# EAGLE library part USB-A1VSB6 (library USB-A1VSB6)
USB - A Receptacle Connector 4 Position Through Hole Source: Datasheet <http://www.on-shore.com/wp-content/uploads/USB-A1VSXX.pdf>
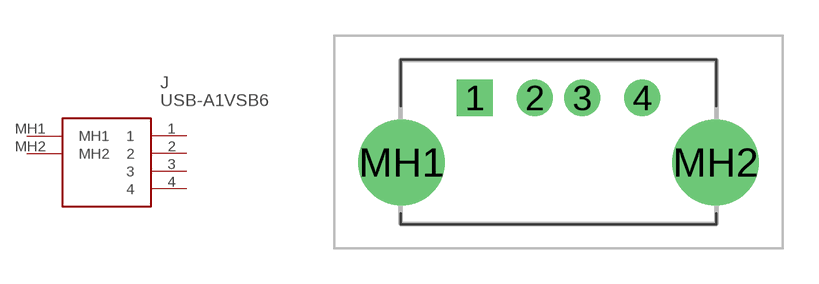
[diagram p0: symbol with the pads of USBA1VSB6; footprint USBA1VSB6]

Designator prefix J

## USB-A1VSB6 (Arrow_Part_Number: USB-A1VSB6; Arrow_Price-Stock: https://www.arrow.com/en/products/usb-a1vsb6/on-shore-technology?utm_currency=USD&region=nac; Description: USB - A Receptacle Connector 4 Position Through Hole; Height: 13.7mm; Manufacturer_Name: On Shore Technology Inc.; Manufacturer_Part_Number: USB-A1VSB6)  [USBA1VSB6]
1  1
2  2
3  3
4  4
MH1  MH1
MH2  MH2

## Footprint USBA1VSB6 (pad centres in mm)
USB-A1VSB6-1
drill 1 pad 1.5 square: 1 0,0
drill 1 pad 1.5: 2 2.5,0; 3 4.5,0; 4 7,0
drill 2.41 pad 3.615: MH1 -3.07,-2.71; MH2 10.07,-2.71